# Altium footprint library ACW.PcbLib: 2 footprints
Each footprint in its own frame and in the unit in brackets; x right, y up, seen from the top. Pads: shape width x height; smd on the part's side, far side on the other; paste and mask are expansions set on the pad; w line width, h text height; cw(c..) or ccw(c..) is an arc to the next point about the centre after c.
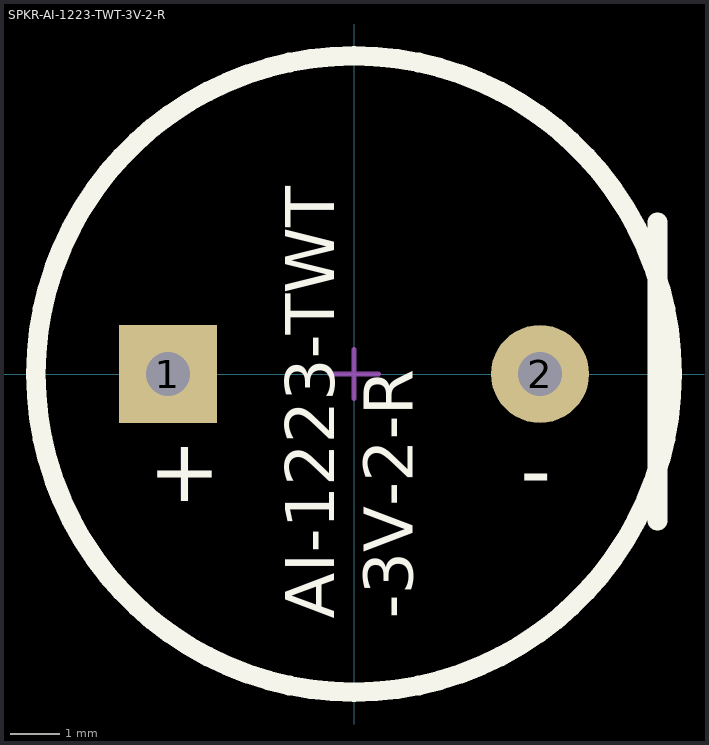
[diagram p0: the footprints below, top view; thin cyan lines are the x and y axes]

## PCBComponent_1 [mm]

## SPKR-AI-1223-TWT-3V-2-R [mm]
pads (2):
  rect 2x2 hole 0.9: 1(-3.8,0)
  round 2 hole 0.9: 2(3.8,0)
Top Overlay:
  circle w0.4: c0,0 r6.5
  lines w0.4: 6.2,-3 6.2,3.1
  text "-3V-2-R" at 1.2,-5 h1
  text "AI-1223-TWT" at -0.4,-5 h1
  text "+" at -4.2,-2.6 h1.3
  text "-" at 3.4,-2.6 h1.3
Courtyard Top:
  lines w0.1: -0.5,0 0.5,0 ; 0,-0.5 0,0.5